# Altium footprint library CAP0603.PcbLib: 1 footprints
Each footprint in its own frame and in the unit in brackets; x right, y up, seen from the top. Pads: shape width x height; smd on the part's side, far side on the other; paste and mask are expansions set on the pad; w line width, h text height; cw(c..) or ccw(c..) is an arc to the next point about the centre after c.
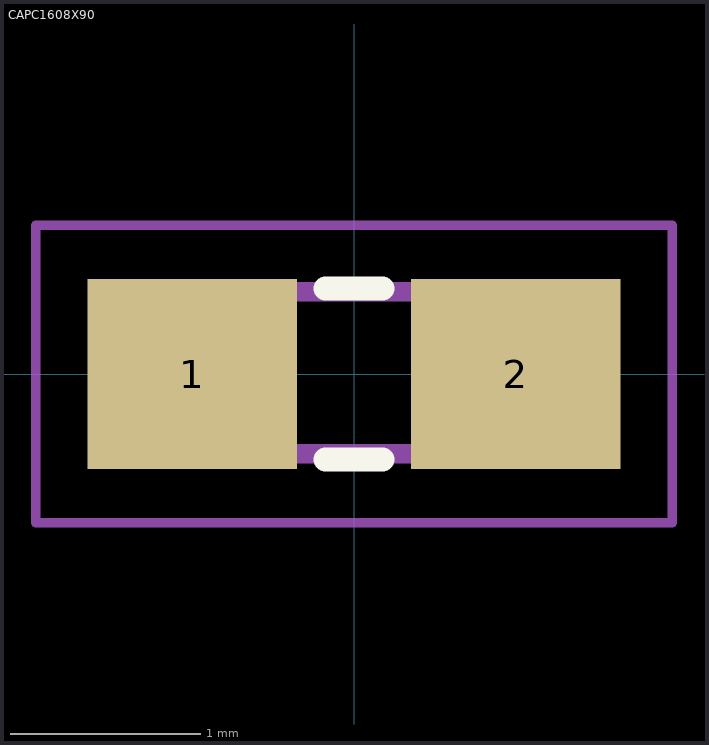
[diagram p0: the footprint, top view; thin cyan lines are the x and y axes]

## CAPC1608X90 [mm]
pads (2):
  rect 1.1x1 smd: 1(-0.85,0) 2(0.85,0)
Top Overlay:
  lines w0.127: -0.15,-0.45 0.15,-0.45 ; -0.15,0.45 0.15,0.45
Mechanical 13:
  region: 0.83,-0.471 0.331,-0.471 0.331,0.48 0.83,0.48
  region: -0.338,-0.47 -0.839,-0.47 -0.839,0.48 -0.338,0.48
  lines w0.102: -0.356,-0.419 0.356,-0.419 ; -0.356,0.432 0.356,0.432
Mechanical 15:
  lines w0.051: -1.673,-0.783 -1.673,0.783 1.673,0.783 1.673,-0.783 -1.673,-0.783
3D body "CAP0603.STEP": height 0.81, standoff 0, extent -0.8,-0.392 0.8,0.508